# Altium footprint library PCB3.PcbLib: 12 footprints
Each footprint in its own frame and in the unit in brackets; x right, y up, seen from the top. Pads: shape width x height; smd on the part's side, far side on the other; paste and mask are expansions set on the pad; w line width, h text height; cw(c..) or ccw(c..) is an arc to the next point about the centre after c.
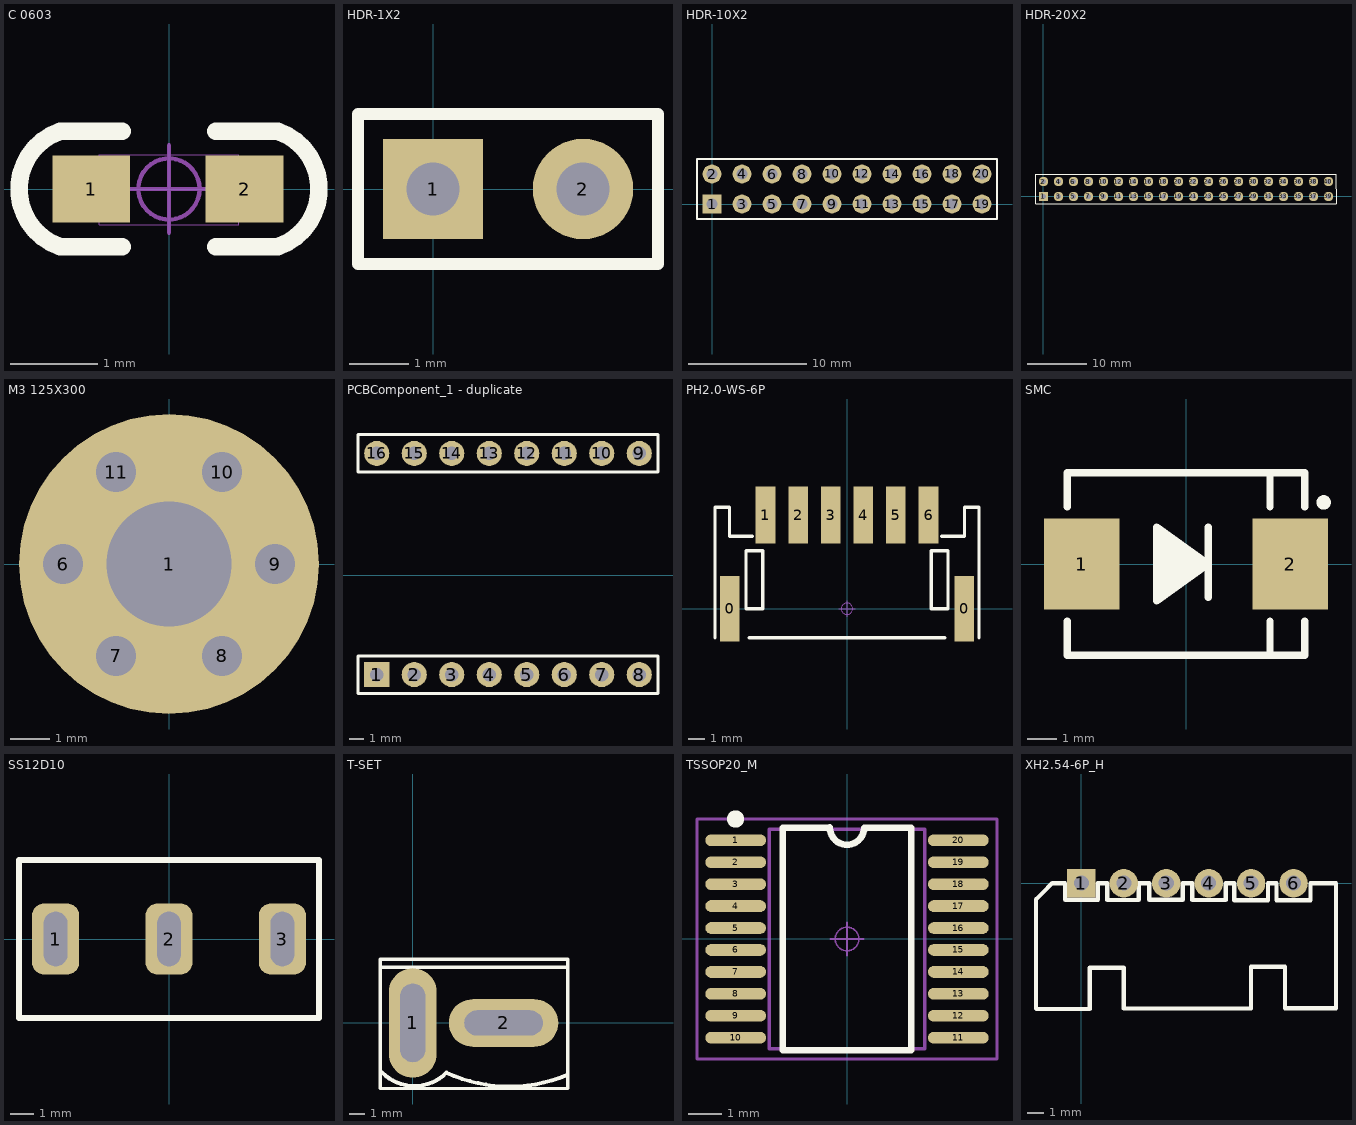
[diagram p0: the footprints below, top view; thin cyan lines are the x and y axes]

## C 0603 [mil] "无极性贴片电容"
pads (2):
  rect 35x30 smd: 1(-35,0) 2(34,0)
Top Overlay:
  lines w7.87: -21,-26 -49.02,-26 cw(c-40,0) -49.02,26 -21,26 ; 21,-26 49.02,-26 ccw(c40,0) 49.02,26 21,26
Mechanical 13:
  lines w0.39: -31.5,-16 31.5,-16 31.5,15.5 -31.5,15.5 -31.5,-16
Mechanical 15:
  circle w1.97: c0,0 r13.78
  lines w1.97: -19.68,0 19.68,0 ; 0,-19.68 0,19.68
3D body "C 0603.STEP": height 31.89, standoff -0.39, extent -31.5,-16.14 31.5,16.14

## HDR-1X2 [mm] "排针，2脚"
pads (2):
  rect 1.7x1.7 hole 0.9: 1(0,0)
  round 1.7 hole 0.9: 2(2.54,0)
Top Overlay:
  lines w0.2: -1.27,-1.27 3.81,-1.27 3.81,1.27 -1.27,1.27 -1.27,-1.27
3D body "HDR2.54-1P.STEP": height 8.5, standoff -3, extent -1.27,-1.27 1.27,1.27
3D body "HDR2.54-1P.STEP": height 8.5, standoff -3, extent 1.27,-1.27 3.81,1.27

## HDR-10X2 [mm] "双排排针，10x2脚"
pads (20):
  rect 1.6x1.6 hole 0.9: 1(0,0)
  round 1.6 hole 0.9: 2(0,2.54) 3(2.54,0) 4(2.54,2.54) 5(5.08,0) 6(5.08,2.54) 7(7.62,0) 8(7.62,2.54) 9(10.16,0) 10(10.16,2.54) 11(12.7,0) 12(12.7,2.54) 13(15.24,0) 14(15.24,2.54) 15(17.78,0) 16(17.78,2.54) 17(20.32,0) 18(20.32,2.54) 19(22.86,0) 20(22.86,2.54)
Top Overlay:
  lines w0.2: -1.27,-1.27 -1.27,3.81 24.13,3.81 24.13,-1.27 -1.27,-1.27
3D body "HDR2.54-1x2P.STEP": height 8.5, standoff -3, extent 8.89,-1.27 11.43,3.81
3D body "HDR2.54-1x2P.STEP": height 8.5, standoff -3, extent 1.27,-1.27 3.81,3.81
3D body "HDR2.54-1x2P.STEP": height 8.5, standoff -3, extent -1.27,-1.27 1.27,3.81
3D body "HDR2.54-1x2P.STEP": height 8.5, standoff -3, extent 6.35,-1.27 8.89,3.81
3D body "HDR2.54-1x2P.STEP": height 8.5, standoff -3, extent 3.81,-1.27 6.35,3.81
3D body "HDR2.54-1x2P.STEP": height 8.5, standoff -3, extent 21.59,-1.27 24.13,3.81
3D body "HDR2.54-1x2P.STEP": height 8.5, standoff -3, extent 13.97,-1.27 16.51,3.81
3D body "HDR2.54-1x2P.STEP": height 8.5, standoff -3, extent 11.43,-1.27 13.97,3.81
3D body "HDR2.54-1x2P.STEP": height 8.5, standoff -3, extent 19.05,-1.27 21.59,3.81
3D body "HDR2.54-1x2P.STEP": height 8.5, standoff -3, extent 16.51,-1.27 19.05,3.81

## HDR-20X2 [mm] "双排排针，20x2脚"
pads (40):
  rect 1.6x1.6 hole 0.9: 1(0,0)
  round 1.6 hole 0.9: 2(0,2.54) 3(2.54,0) 4(2.54,2.54) 5(5.08,0) 6(5.08,2.54) 7(7.62,0) 8(7.62,2.54) 9(10.16,0) 10(10.16,2.54) 11(12.7,0) 12(12.7,2.54) 13(15.24,0) 14(15.24,2.54) 15(17.78,0) 16(17.78,2.54) 17(20.32,0) 18(20.32,2.54) 19(22.86,0) 20(22.86,2.54) 21(25.4,0) 22(25.4,2.54) 23(27.94,0) 24(27.94,2.54) 25(30.48,0) 26(30.48,2.54) 27(33.02,0) 28(33.02,2.54) 29(35.56,0) 30(35.56,2.54) 31(38.1,0) 32(38.1,2.54) 33(40.64,0) 34(40.64,2.54) 35(43.18,0) 36(43.18,2.54) 37(45.72,0) 38(45.72,2.54) 39(48.26,0) 40(48.26,2.54)
Top Overlay:
  lines w0.2: -1.27,-1.27 49.53,-1.27 49.53,3.81 -1.27,3.81 -1.27,-1.27
3D body "HDR2.54-1x2P.STEP": height 8.5, standoff -3, extent 41.91,-1.27 44.45,3.81
3D body "HDR2.54-1x2P.STEP": height 8.5, standoff -3, extent 44.45,-1.27 46.99,3.81
3D body "HDR2.54-1x2P.STEP": height 8.5, standoff -3, extent 36.83,-1.27 39.37,3.81
3D body "HDR2.54-1x2P.STEP": height 8.5, standoff -3, extent 39.37,-1.27 41.91,3.81
3D body "HDR2.54-1x2P.STEP": height 8.5, standoff -3, extent 46.99,-1.27 49.53,3.81
3D body "HDR2.54-1x2P.STEP": height 8.5, standoff -3, extent 29.21,-1.27 31.75,3.81
3D body "HDR2.54-1x2P.STEP": height 8.5, standoff -3, extent 31.75,-1.27 34.29,3.81
3D body "HDR2.54-1x2P.STEP": height 8.5, standoff -3, extent 24.13,-1.27 26.67,3.81
3D body "HDR2.54-1x2P.STEP": height 8.5, standoff -3, extent 26.67,-1.27 29.21,3.81
3D body "HDR2.54-1x2P.STEP": height 8.5, standoff -3, extent 34.29,-1.27 36.83,3.81
3D body "HDR2.54-1x2P.STEP": height 8.5, standoff -3, extent 16.51,-1.27 19.05,3.81
3D body "HDR2.54-1x2P.STEP": height 8.5, standoff -3, extent 19.05,-1.27 21.59,3.81
3D body "HDR2.54-1x2P.STEP": height 8.5, standoff -3, extent 11.43,-1.27 13.97,3.81
3D body "HDR2.54-1x2P.STEP": height 8.5, standoff -3, extent 13.97,-1.27 16.51,3.81
3D body "HDR2.54-1x2P.STEP": height 8.5, standoff -3, extent 21.59,-1.27 24.13,3.81
3D body "HDR2.54-1x2P.STEP": height 8.5, standoff -3, extent 3.81,-1.27 6.35,3.81
3D body "HDR2.54-1x2P.STEP": height 8.5, standoff -3, extent 6.35,-1.27 8.89,3.81
3D body "HDR2.54-1x2P.STEP": height 8.5, standoff -3, extent -1.27,-1.27 1.27,3.81
3D body "HDR2.54-1x2P.STEP": height 8.5, standoff -3, extent 1.27,-1.27 3.81,3.81
3D body "HDR2.54-1x2P.STEP": height 8.5, standoff -3, extent 8.89,-1.27 11.43,3.81

## M3 125X300 [mil] "M3螺丝孔，孔125Mil，焊盘300Mil"
pads (7):
  round 300 hole 125: 1(0,0)
  round 40 hole 40: 6(-106,0) 7(-53,-91.8) 8(53,-91.8) 9(106,0) 10(53,91.8) 11(-53,91.8)

## PCBComponent_1 - duplicate [mm]
pads (16):
  rect 1.7x1.7 hole 0.9: 1(13.97,-6.731)
  round 1.7 hole 0.9: 2(16.51,-6.731) 3(19.05,-6.731) 4(21.59,-6.731) 5(24.13,-6.731) 6(26.67,-6.731) 7(29.21,-6.731) 8(31.75,-6.731) 9(31.75,8.255) 10(29.21,8.255) 11(26.67,8.255) 12(24.13,8.255) 13(21.59,8.255) 14(19.05,8.255) 15(16.51,8.255) 16(13.97,8.255)
Top Overlay:
  lines w0.2: 12.7,-8.001 12.7,-5.461 33.02,-5.461 33.02,-8.001 12.7,-8.001 ; 12.7,6.985 12.7,9.525 33.02,9.525 33.02,6.985 12.7,6.985
3D body "HDR2.54-1P.STEP": height 5.54, standoff -5.96, extent 30.48,-8.001 33.02,-5.461
3D body "HDR2.54-1P.STEP": height 5.54, standoff -5.96, extent 25.4,-8.001 27.94,-5.461
3D body "HDR2.54-1P.STEP": height 5.54, standoff -5.96, extent 27.94,-8.001 30.48,-5.461
3D body "HDR2.54-1P.STEP": height 5.54, standoff -5.96, extent 22.86,-8.001 25.4,-5.461
3D body "HDR2.54-1P.STEP": height 5.54, standoff -5.96, extent 20.32,-8.001 22.86,-5.461
3D body "HDR2.54-1P.STEP": height 5.54, standoff -5.96, extent 17.78,-8.001 20.32,-5.461
3D body "HDR2.54-1P.STEP": height 5.54, standoff -5.96, extent 15.24,-8.001 17.78,-5.461
3D body "HDR2.54-1P.STEP": height 5.54, standoff -5.96, extent 12.7,-8.001 15.24,-5.461
3D body "HDR2.54-1P.STEP": height 5.54, standoff -5.96, extent 30.48,6.985 33.02,9.525
3D body "HDR2.54-1P.STEP": height 5.54, standoff -5.96, extent 25.4,6.985 27.94,9.525
3D body "HDR2.54-1P.STEP": height 5.54, standoff -5.96, extent 27.94,6.985 30.48,9.525
3D body "HDR2.54-1P.STEP": height 5.54, standoff -5.96, extent 22.86,6.985 25.4,9.525
3D body "HDR2.54-1P.STEP": height 5.54, standoff -5.96, extent 20.32,6.985 22.86,9.525
3D body "HDR2.54-1P.STEP": height 5.54, standoff -5.96, extent 17.78,6.985 20.32,9.525
3D body "HDR2.54-1P.STEP": height 5.54, standoff -5.96, extent 15.24,6.985 17.78,9.525
3D body "HDR2.54-1P.STEP": height 5.54, standoff -5.96, extent 12.7,6.985 15.24,9.525
3D body "User Library-Motor Driver.STEP": height 6.08, standoff 2.51, extent 12.37,-9.69 33.35,11.214

## PH2.0-WS-6P [mm] "长：16mm，宽：7.6mm，高：5.5mm"
pads (8):
  rect 1.2x4 smd: 0(-7.2,-0.006) 0(7.2,-0.006)
  rect 1.2x3.5 smd: 1(-5,5.744) 2(-3,5.744) 3(-1,5.744) 4(1,5.744) 5(3,5.744) 6(5,5.744)
Top Overlay:
  lines w0.2: -8.096,-1.778 -8.096,6.223 -7.207,6.223 -7.207,4.445 -5.81,4.445 ; -6,-1.778 6,-1.778 ; 5.81,4.445 7.207,4.445 7.207,6.223 8.096,6.223 8.096,-1.778 ; -6.191,0 -6.191,3.556 -5.175,3.556 -5.175,0 -6.191,0 ; 5.175,0 5.175,3.556 6.191,3.556 6.191,0 5.175,0
Mechanical 15:
  circle w0.05: c0,0 r0.35
  lines w0.05: -0.5,0 0.5,0 ; 0,-0.5 0,0.5
3D body "PH2.0 SMD-W-6P.STEP": height 5.55, standoff 0.05, extent -8,-1.65 8,6.95

## SMC [mm] "7.1x5.9*2.3mm（长宽高，不包括引脚）"
height 2.41
pads (2):
  rect 2.6x3.15 smd: 1(-3.6,0) 2(3.6,0)
Top Overlay:
  circle w0.25: c4.75,2.125 r0.125
  lines w0.254: -4.1,-1.975 -4.1,-3.15 4.1,-3.15 4.1,-1.975 ; -4.1,1.975 -4.1,3.15 4.1,3.15 4.1,1.975 ; -0.889,0.991 0.5,0 -0.889,-0.965 -0.914,0.762 0.229,0 -0.711,-0.66 -0.762,0.483 0,-0.051 -0.584,-0.33 -0.635,0.152 -0.229,-0.051 -0.737,-0.127 ; 0.762,-1.143 0.762,1.27 ; 2.9,-3.15 2.9,-1.975 ; 2.9,1.975 2.9,3.15 ; -1.016,-1.27 0.762,0 -1.016,1.27 -1.016,-1.27
Mechanical 13:
  lines w0.1: -4.065,-3.11 4.065,-3.11 ; -4.065,3.11 4.065,3.11
Mechanical 15:
  circle w0.05: c0,0 r0.35
  lines w0.05: -0.5,0 0.5,0 ; 0,-0.5 0,0.5
3D body "SMC.STEP": height 2.45, standoff 0.03, extent -3.953,-2.9 3.953,2.9

## SS12D10 [mm] "脚距4.8mm"
pads (3):
  rrect50% 2x3 hole 2.3 slot 1 at 0 deg: 1(-4.8,0) 2(0,0) 3(4.8,0)
Top Overlay:
  lines w0.254: -6.35,-3.35 6.35,-3.35 6.35,3.35 -6.35,3.35 -6.35,-3.35
3D body "SS12D10.SLDPRT": height 11.36, standoff -6.74, extent -6.35,-3.35 6.35,3.35

## T-SET [mm]
pads (2):
  oval 3.048x7 hole 1.6 slot 5 at 90 deg: 1(0,0)
  oval 7x3.048 hole 1.6 slot 5 at 0 deg: 2(5.8,0)
Top Overlay:
  lines w0.203: -2.08,3.556 9.779,3.556 ; -2.08,-4.191 9.906,-4.191 9.906,4.064 -2.08,4.064 -2.08,-4.191
  lines w0.254: -1.953,-3.175 ccw(c0.103,-1.119) 2.159,-3.175 ccw(c6.175,5.426) 9.861,-3.321

## TSSOP20_M [mm] "6.5*6.4*1（长宽高）"
height 1.2
pads (20):
  oval 1.8x0.35 smd: 1(-3.3,2.925) 2(-3.3,2.275) 3(-3.3,1.625) 4(-3.3,0.975) 5(-3.3,0.325) 6(-3.3,-0.325) 7(-3.3,-0.975) 8(-3.3,-1.625) 9(-3.3,-2.275) 10(-3.3,-2.925) 11(3.3,-2.925) 12(3.3,-2.275) 13(3.3,-1.625) 14(3.3,-0.975) 15(3.3,-0.325) 16(3.3,0.325) 17(3.3,0.975) 18(3.3,1.625) 19(3.3,2.275) 20(3.3,2.925)
Top Overlay:
  circle w0.254: c-3.302,3.556 r0.13
  lines w0.2: -1.905,-3.3 -1.905,3.299 -0.508,3.302 ccw(c0,3.3) 0.508,3.3 1.905,3.3 1.905,-3.3 -1.905,-3.3
Mechanical 13:
  lines w0.1: -2.3,-3.25 -2.3,3.25 2.3,3.25 2.3,-3.25 -2.3,-3.25
Mechanical 15:
  circle w0.05: c0,0 r0.35
  lines w0.05: -0.5,0 0.5,0 ; 0,-0.5 0,0.5
  lines w0.1: -4.445,-3.556 4.445,-3.556 4.445,3.556 -4.445,3.556 -4.445,-3.556
3D body "TSSOP20.STEP": height 1.03, standoff -0.02, extent -3.202,-3.25 3.202,3.25

## XH2.54-6P_H [mm] "接插件，6P"
pads (6):
  rect 1.7x1.7 hole 0.9: 1(0,0)
  round 1.7 hole 0.9: 2(2.54,0) 3(5.08,0) 4(7.62,0) 5(10.16,0) 6(12.7,0)
Top Overlay:
  lines w0.254: 3.434,0 3.434,-0.988 3.42,-1.002 1.554,-1.002 1.554,0 0.982,0 0.982,-0.982 0.996,-0.996 -0.96,-0.996 -0.974,-0.982 -0.974,0 -1.75,0 -2.332,-0.582 -2.716,-0.966 -2.716,-7.502 -2.69,-7.528 0.508,-7.528 0.508,-5.058 2.54,-5.058 2.54,-7.502 10.16,-7.502 10.16,-5.006 12.192,-5.006 12.192,-7.49 15.24,-7.49 15.24,0 13.716,0 13.716,-1.016 11.684,-1.016 11.684,0 11.176,0 11.176,-1.016 9.144,-1.016 9.144,0 8.636,0 8.636,-1.002 6.632,-1.002 6.632,0 ; 3.446,0 4.044,0 ; 4.058,-0.996 4.058,0 ; 4.078,-0.996 6.066,-0.996 6.072,-0.99 6.072,0 6.618,0
3D body "XH2.54-6P_H.STEP": height 5.75, standoff -3.35, extent -2.5,-7.35 15.2,0.35